# Altium footprint library MFS101D-8-Z.PcbLib: 1 footprints
Each footprint in its own frame and in the unit in brackets; x right, y up, seen from the top. Pads: shape width x height; smd on the part's side, far side on the other; paste and mask are expansions set on the pad; w line width, h text height; cw(c..) or ccw(c..) is an arc to the next point about the centre after c.
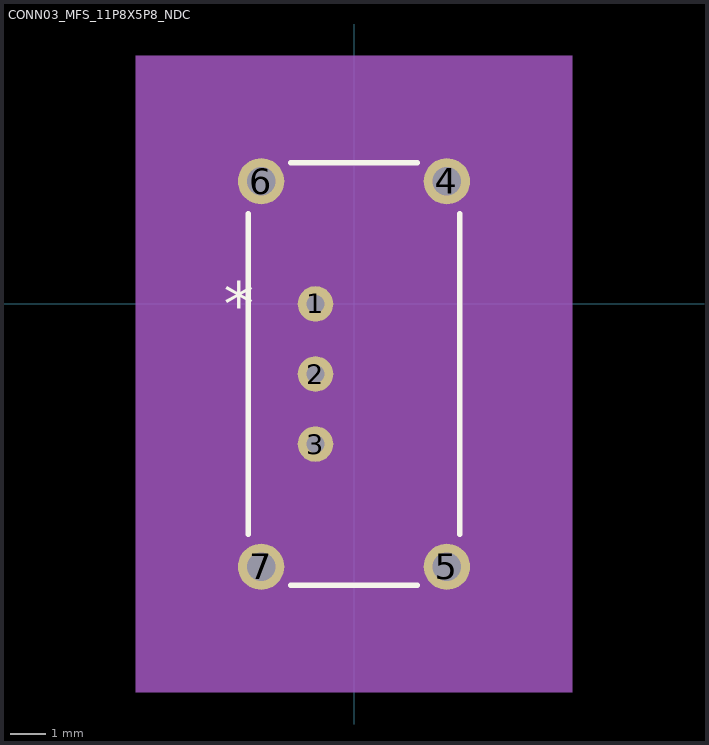
[diagram p0: the footprint, top view; thin cyan lines are the x and y axes]

## CONN03_MFS_11P8X5P8_NDC [mil]
pads (7):
  round 40 hole 20 mask+0: 1(-43.31,0) 2(-43.31,-78.74) 3(-43.31,-157.48)
  round 52 hole 32: 4(104.33,137.8) 5(104.33,-295.28) 6(-104.33,137.8) 7(-104.33,-295.28)
Top Overlay:
  lines w6: -119,-259.03 -119,101.55 ; -71.33,-316.24 71.33,-316.24 ; -71.33,158.76 71.33,158.76 ; 119,-259.03 119,101.55
  text "*" at -146.5,-25 h50
Mechanical 5:
  region: 245,-436.24 -245,-436.24 -245,278.76 245,278.76
Mechanical 13:
  region: 39.5,-137.74 -39.5,-137.74 -39.5,-78.74 39.5,-78.74
  lines w1: -114,-311.24 114,-311.24 114,153.76 -114,153.76 -114,-311.24 ; -39.5,-137.74 -39.5,-19.74 39.5,-19.74 39.5,-137.74 -39.5,-137.74
  text "*" at -111.5,-25 h50
Mechanical 15:
  region: 130,-321.24 -130,-321.24 -130,163.76 130,163.76
  lines w6: -130,-321.24 130,-321.24 130,163.76 -130,163.76 -130,-321.24
3D body: height 10, standoff 0, extent 0,0 10,10